# Altium footprint library PCB Footprints.PcbLib: 10 footprints
Each footprint in its own frame and in the unit in brackets; x right, y up, seen from the top. Pads: shape width x height; smd on the part's side, far side on the other; paste and mask are expansions set on the pad; w line width, h text height; cw(c..) or ccw(c..) is an arc to the next point about the centre after c.
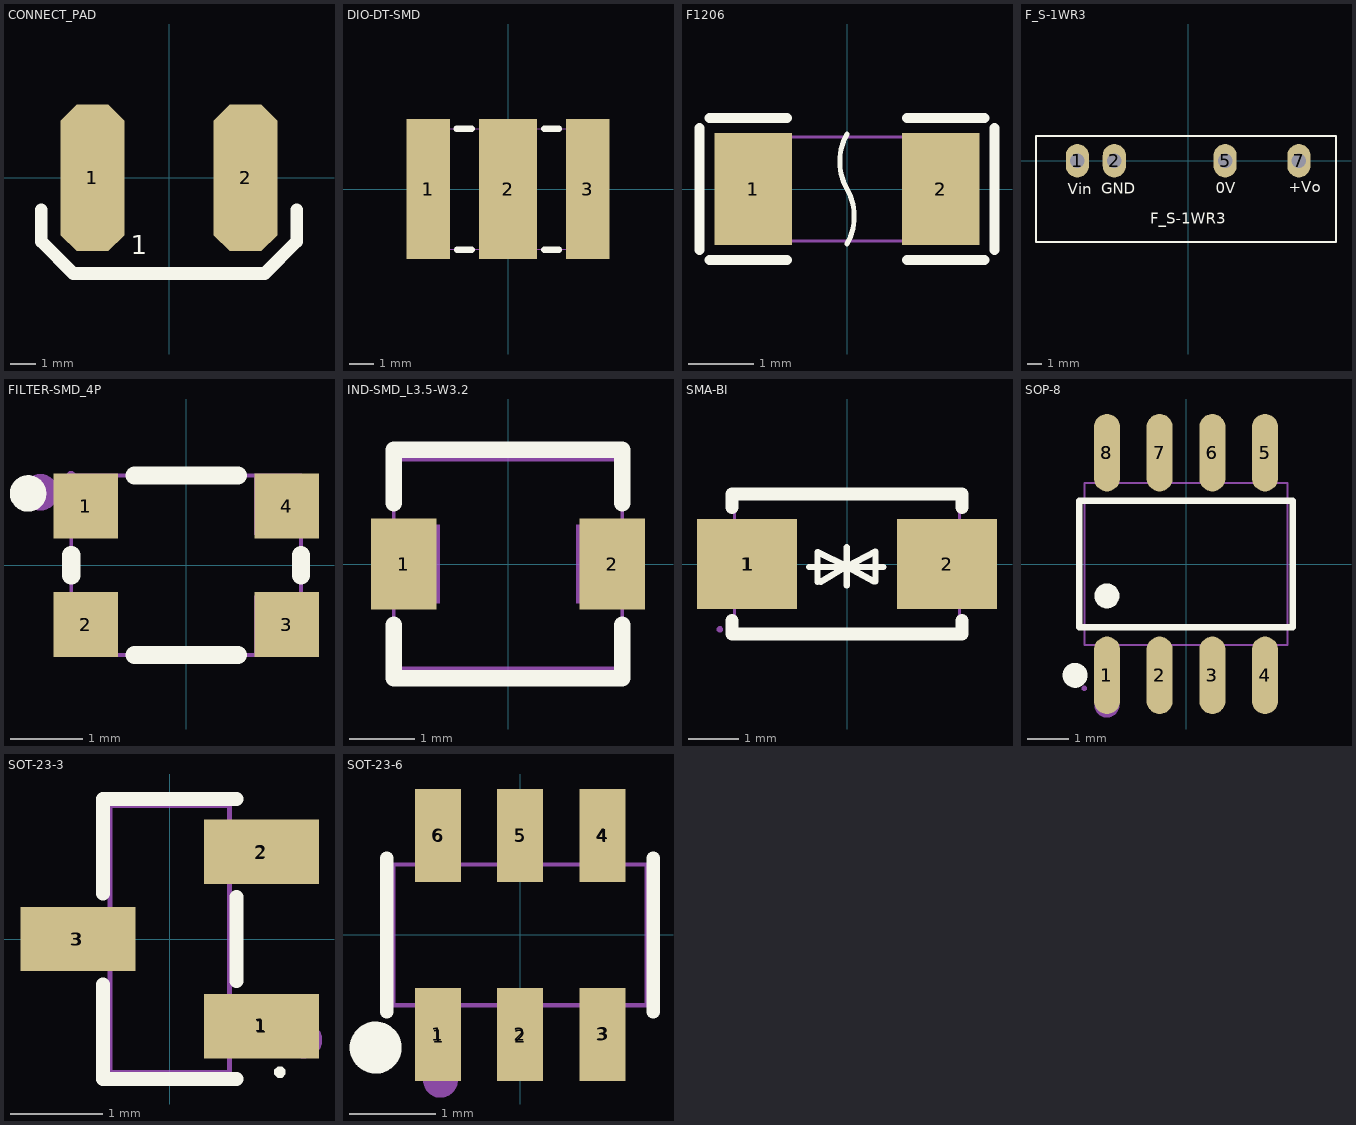
[diagram p0: the footprints below, top view; thin cyan lines are the x and y axes]

## CONNECT_PAD [mil]
pads (4):
  oct 100x230 smd: 1(-120,0) 2(120,0)
  oct 100x230 on Top Solder: 1(-120,0) 2(120,0)
Top Overlay:
  lines w20: -200,-50 -200,-100 -150,-150 0,-150 150,-150 200,-100 200,-50
  text "1" at -60,-120 h30

## DIO-DT-SMD [mm]
pads (6):
  rect 1.8x5.8 smd: 1(-3.3,0) 3(3.3,0)
  rect 1.8x5.8 on Top Solder: 1(-3.3,0) 3(3.3,0)
  rect 2.4x5.8 smd: 2(0,0)
  rect 2.4x5.8 on Top Solder: 2(0,0)
Top Overlay:
  lines w0.254: -2.13,2.49 -1.5,2.49 ; -2.115,-2.51 -1.5,-2.51 ; 1.5,-2.51 2.105,-2.51 ; 1.5,2.49 2.115,2.49
Mechanical 6:
  lines w0.254: -3.6,-2.51 -3.6,2.49 ; 3.6,-2.51 3.6,2.49
Mechanical 15:
  region: -3.54,-2.5 -3.54,-2.475 -3.575,-2.44 -3.625,-2.44 -3.66,-2.475 -3.66,-2.5 -3.66,-2.525 -3.625,-2.56 -3.575,-2.56 -3.54,-2.525
  region: -3.6,2.5 -3.2,2.5 -3.2,-2.5 -3.6,-2.5
  region: 3.2,2.5 3.6,2.5 3.6,-2.5 3.2,-2.5
  region: -0.75,2.5 0.75,2.5 0.75,-2.5 -0.75,-2.5
  lines w0.051: -3.6,-2.5 -3.6,2.5 3.6,2.5 3.6,-2.5 -3.6,-2.5
3D body "2028-25-alf.stp": height 8.06, standoff 0.06, extent -5.047,-3.873 4.953,4.127

## F1206 [mm]
pads (4):
  rect 1.19x1.728 smd: 1(-1.445,0) 2(1.445,0)
  rect 1.19x1.728 on Top Solder: 1(-1.445,0) 2(1.445,0)
Top Overlay:
  lines w0.076: 0,-0.845 ccw(c-0.732,-0.422) 0,0 cw(c0.732,0.422) 0,0.845
  lines w0.152: -2.269,-0.94 -2.269,0.94 ; -2.116,-1.093 -0.926,-1.093 ; -2.116,1.093 -0.926,1.093 ; 0.926,-1.093 2.116,-1.093 ; 0.926,1.093 2.116,1.093 ; 2.269,-0.94 2.269,0.94
Mechanical 15:
  region: 1.1,-0.8 1.6,-0.8 1.6,0.8 1.1,0.8
  region: -1.6,-0.8 -1.1,-0.8 -1.1,0.8 -1.6,0.8
  region: -1.54,-0.8 -1.54,-0.775 -1.575,-0.74 -1.625,-0.74 -1.66,-0.775 -1.66,-0.8 -1.66,-0.825 -1.625,-0.86 -1.575,-0.86 -1.54,-0.825 -1.54,-0.8
  lines w0.051: -1.6,-0.8 -1.6,0.8 1.6,0.8 1.6,-0.8 -1.6,-0.8
3D body "0ZCJ0005FF2E.step": height 0.71, standoff 0.01, extent -1.7,-0.841 1.7,0.859

## F_S-1WR3 [mm]
pads (4):
  oval 1.6x2.3 hole 1: 1(-7.62,0) 2(-5.08,0) 5(2.54,0) 7(7.62,0)
Top Overlay:
  lines w0.127: -10.47,-5.6 -10.47,1.7 10.17,1.7 10.17,-5.6 -10.47,-5.6
  text "F_S-1WR3" at -2.602,-4.346 h0.76
  text "Vin" at -8.284,-2.308 h0.76
  text "GND" at -5.969,-2.272 h0.76
  text "0V" at 1.905,-2.235 h0.76
  text "+Vo" at 6.936,-2.164 h0.76
3D body "F_S-1WR3.stp": height 10.16, standoff -4.1, extent -9.945,-5.118 9.704,0.882

## FILTER-SMD_4P [mm]
pads (8):
  rect 0.9x0.9 smd: 1(-1.4,0.825) 2(-1.4,-0.825) 3(1.4,-0.825) 4(1.4,0.825)
  rect 0.9x0.9 on Top Solder: 1(-1.4,0.825) 2(-1.4,-0.825) 3(1.4,-0.825) 4(1.4,0.825)
Top Overlay:
  circle w0.254: c-2.2,1 r0.127
  lines w0.254: -1.6,-0.144 -1.6,0.144 ; -0.719,-1.25 0.719,-1.25 ; -0.719,1.25 0.719,1.25 ; 1.6,-0.144 1.6,0.144
Mechanical 6:
  circle w0.254: c-2.032,1.016 r0.127
Mechanical 15:
  region: -1.54,1.25 -1.54,1.275 -1.575,1.31 -1.625,1.31 -1.66,1.275 -1.66,1.25 -1.66,1.225 -1.625,1.19 -1.575,1.19 -1.54,1.225
  region: 1.6,-0.425 1.6,-1.225 0.95,-1.225 0.95,-0.425
  region: 1.6,1.225 1.6,0.425 0.95,0.425 0.95,1.225
  region: -0.95,1.225 -0.95,0.425 -1.6,0.425 -1.6,1.225
  region: -0.95,-0.425 -0.95,-1.225 -1.6,-1.225 -1.6,-0.425
  lines w0.051: -1.6,-1.25 1.6,-1.25 1.6,1.25 -1.6,1.25 -1.6,-1.25
3D body "Coilcraft-1210CAN.STEP": height 2.74, standoff 0, extent -1.524,-1.27 1.524,1.27

## IND-SMD_L3.5-W3.2 [mm]
pads (4):
  rect 1x1.4 smd: 1(-1.6,0) 2(1.6,0)
  rect 1x1.4 on Top Solder: 1(-1.6,0) 2(1.6,0)
Top Overlay:
  lines w0.254: -1.75,-0.931 -1.75,-1.75 1.75,-1.75 1.75,-0.931 ; -1.75,0.931 -1.75,1.75 1.75,1.75 1.75,0.931
Mechanical 15:
  region: 1.05,0.6 1.75,0.6 1.75,-0.6 1.05,-0.6
  region: -1.75,0.6 -1.05,0.6 -1.05,-0.6 -1.75,-0.6
  region: -1.69,-1.6 -1.69,-1.575 -1.725,-1.54 -1.775,-1.54 -1.81,-1.575 -1.81,-1.6 -1.81,-1.625 -1.775,-1.66 -1.725,-1.66 -1.69,-1.625 -1.69,-1.6
  lines w0.051: -1.75,-1.6 1.75,-1.6 1.75,1.6 -1.75,1.6 -1.75,-1.6

## SMA-BI [mm]
pads (4):
  rect 2x1.8 smd: 1(-2,0) 2(2,0)
  rect 2x1.8 on Top Solder: 1(-1.968,0) 2(2,0)
Top Overlay:
  lines w0.127: -0.76,-0.06 0.73,-0.06 ; -0.59,-0.36 -0.59,0.24 -0.002,-0.049 ; -0.53,-0.36 -0.002,-0.049 ; -0.002,-0.43 -0.002,-0.049 ; -0.002,0.332 -0.002,-0.049 ; 0.54,-0.35 -0.002,-0.049 ; 0.57,-0.35 0.57,0.25 -0.002,-0.049
  lines w0.254: -2.3,-1.131 -2.3,-1.4 2.3,-1.4 2.3,-1.131 ; -2.3,1.131 -2.3,1.4 2.3,1.4 2.3,1.131
Mechanical 15:
  region: 1.458,-0.725 1.458,0.725 2.542,0.725 2.542,-0.725
  region: -2.542,-0.725 -2.542,0.725 -1.458,0.725 -1.458,-0.725
  region: -2.482,-1.308 -2.482,-1.283 -2.518,-1.248 -2.567,-1.248 -2.602,-1.283 -2.602,-1.308 -2.602,-1.332 -2.567,-1.368 -2.518,-1.368 -2.482,-1.332 -2.482,-1.308
  lines w0.051: -2.25,-1.308 2.25,-1.308 2.25,1.307 -2.25,1.307 -2.25,-1.308
3D body "Diode SMA.stp": height 2.41, standoff 0, extent -2.667,-1.46 2.613,1.46

## SOP-8 [mm]
pads (16):
  oval 0.63x1.865 smd: 1(-1.905,-2.682) 2(-0.635,-2.682) 3(0.635,-2.682) 4(1.905,-2.682) 5(1.905,2.682) 6(0.635,2.682) 7(-0.635,2.682) 8(-1.905,2.682)
  oval 0.63x1.865 on Top Solder: 1(-1.905,-2.682) 2(-0.635,-2.682) 3(0.635,-2.682) 4(1.905,-2.682) 5(1.905,2.682) 6(0.635,2.682) 7(-0.635,2.682) 8(-1.905,2.682)
Top Overlay:
  circle w0.3: c-2.672,-2.682 r0.15
  circle w0.3: c-1.905,-0.769 r0.15
  lines w0.152: -2.576,-1.521 2.576,-1.521 2.576,1.521 -2.576,1.521 -2.576,-1.521
Mechanical 6:
  circle w0.3: c-1.905,-3.4 r0.15
Mechanical 15:
  region: -2.115,-3 -2.115,-2.165 -1.695,-2.165 -1.695,-3
  region: -2.115,-2.175 -2.115,-1.94 -1.695,-1.94 -1.695,-2.175
  region: -0.845,-3 -0.845,-2.165 -0.425,-2.165 -0.425,-3
  region: -0.845,-2.175 -0.845,-1.94 -0.425,-1.94 -0.425,-2.175
  region: 0.425,-3 0.425,-2.165 0.845,-2.165 0.845,-3
  region: 0.425,-2.175 0.425,-1.94 0.845,-1.94 0.845,-2.175
  region: 1.695,-3 1.695,-2.165 2.115,-2.165 2.115,-3
  region: 1.695,-2.175 1.695,-1.94 2.115,-1.94 2.115,-2.175
  region: -2.115,2.165 -2.115,3 -1.695,3 -1.695,2.165
  region: -2.115,1.94 -2.115,2.175 -1.695,2.175 -1.695,1.94
  region: -0.845,2.165 -0.845,3 -0.425,3 -0.425,2.165
  region: -0.845,1.94 -0.845,2.175 -0.425,2.175 -0.425,1.94
  region: 0.425,2.165 0.425,3 0.845,3 0.845,2.165
  region: 0.425,1.94 0.425,2.175 0.845,2.175 0.845,1.94
  region: 1.695,2.165 1.695,3 2.115,3 2.115,2.165
  region: 1.695,1.94 1.695,2.175 2.115,2.175 2.115,1.94
  region: -2.39,-3 -2.39,-2.975 -2.425,-2.94 -2.475,-2.94 -2.51,-2.975 -2.51,-3 -2.51,-3.025 -2.475,-3.06 -2.425,-3.06 -2.39,-3.025
  lines w0.051: -2.45,-1.95 2.45,-1.95 2.45,1.95 -2.45,1.95 -2.45,-1.95
3D body "SOP-8.STEP": height 1.87, standoff 0, extent -2.5,-3.11 2.5,3.11

## SOT-23-3 [mm]
pads (6):
  rect 1.25x0.7 on Top Solder: 1(0.991,-0.94) 2(0.991,0.94) 3(-1.016,0)
  rect 1.25x0.7 smd: 1(1,-0.95) 2(1,0.95) 3(-1,0)
Top Overlay:
  region: 1.26,-1.45 1.26,-1.425 1.225,-1.39 1.175,-1.39 1.14,-1.425 1.14,-1.45 1.14,-1.475 1.175,-1.51 1.225,-1.51 1.26,-1.475 1.26,-1.45
  lines w0.152: -0.726,-0.495 -0.726,-1.526 0.726,-1.526 ; -0.726,0.495 -0.726,1.526 0.726,1.526 ; 0.726,-0.455 0.726,0.455
Mechanical 6:
  circle w0.2: c1.46,-1.1 r0.1
Mechanical 15:
  region: 0.64,0.735 0.64,1.165 0.91,1.165 0.91,0.735
  region: 0.9,0.735 0.9,1.165 1.2,1.165 1.2,0.735
  region: 0.64,-1.165 0.64,-0.735 0.91,-0.735 0.91,-1.165
  region: 0.9,-1.165 0.9,-0.735 1.2,-0.735 1.2,-1.165
  region: -0.91,-0.215 -0.91,0.215 -0.64,0.215 -0.64,-0.215
  region: -1.2,-0.215 -1.2,0.215 -0.9,0.215 -0.9,-0.215
  lines w0.051: -0.65,-1.45 -0.65,1.45 0.65,1.45 0.65,-1.45 -0.65,-1.45
3D body "SOT-23-3.stp": height 1, standoff 0, extent -1.054,-1.501 1.346,1.399

## SOT-23-6 [mil]
pads (12):
  rect 20.95x42.2 smd: 1(-37.4,-45.24) 2(0,-45.24) 3(37.4,-45.24) 4(37.4,45.24) 5(0,45.24) 6(-37.4,45.24)
  rect 20.95x42.2 on Top Solder: 1(-37,-46) 2(0.4,-46) 3(38,-45) 4(37.8,45) 5(0.4,45) 6(-37,45)
Top Overlay:
  circle w11.81: c-65.68,-51.24 r5.91
  lines w6: -60.6,-35.01 -60.6,35.01 ; 60.6,-35.01 60.6,35.01
Mechanical 6:
  circle w7.87: c-36.22,-66.14 r3.94
Mechanical 15:
  region: -55.24,-55.12 -55.24,-54.14 -56.62,-52.76 -58.58,-52.76 -59.96,-54.14 -59.96,-55.12 -59.96,-56.1 -58.58,-57.48 -56.62,-57.48 -55.24,-56.1 -55.24,-55.12
  region: -45.87,-36.42 -28.94,-36.42 -28.94,-55.12 -45.87,-55.12
  region: -45.87,-31.61 -28.94,-31.61 -28.94,-36.81 -45.87,-36.81
  region: -8.46,-36.42 8.46,-36.42 8.46,-55.12 -8.46,-55.12
  region: -8.46,-31.61 8.46,-31.61 8.46,-36.81 -8.46,-36.81
  region: 28.94,-36.42 45.87,-36.42 45.87,-55.12 28.94,-55.12
  region: 28.94,-31.61 45.87,-31.61 45.87,-36.81 28.94,-36.81
  region: 28.94,36.42 45.87,36.42 45.87,55.12 28.94,55.12
  region: 28.94,36.81 45.87,36.81 45.87,31.61 28.94,31.61
  region: -8.46,36.42 8.46,36.42 8.46,55.12 -8.46,55.12
  region: -8.46,36.81 8.46,36.81 8.46,31.61 -8.46,31.61
  region: -45.87,36.42 -28.94,36.42 -28.94,55.12 -45.87,55.12
  region: -45.87,36.81 -28.94,36.81 -28.94,31.61 -45.87,31.61
  lines w2: -57.6,-32.01 57.6,-32.01 57.6,32.01 -57.6,32.01 -57.6,-32.01
3D body "SOT-23-6.stp": height 39.37, standoff 0, extent -57.09,-45.24 57.09,49.25